# EAGLE library part 691221320008 (library Eagle_WR-TBL Rising Cage Clamp (rev20a))
WR-TBL Serie 2213 - 3.81 mm 55° Entry Modular KIND PROPERTIES Pitch 3.81 mm MATERIAL PROPERTIES Insulator Material PA66 Insulator Flammability Rating UL94 V-0 Insulator Color Green Contact Material Brass Contact Plating Tin Terminal Screw Material Steel Terminal Screw Plating Zinc Wire Guard Material Brass GENERAL INFORMATION Operating Temperature -40 up to +105 °C Compliance Lead free / RoHS ELECTRICAL PROPERTIES IR cULus 10 A Working Voltage [cULus] 300 V (AC) Withstanding Voltage [cULus] 1600 V (AC) Contact Resistance [cULus] 20 mΩ MECHANICAL PROPERTIES Wire Strip Length 5 up to 6 (mm) Screw M2 CERTIFICATION cULus Approval E315414 PACKAGING PROPERTIES Packaging Box <https://www.we-online.com/catalog/media/o33240v209%20Family_WR-TBL_69122132000x.jpg> Details see: https://www.we-online.com/catalog/en/TBL_3_81_2213_55-DEGREE_ENTRY_MODULAR_69122132000X/ Updated by Ella Wu 2019-11-21 2019(C) Wurth Elektronik
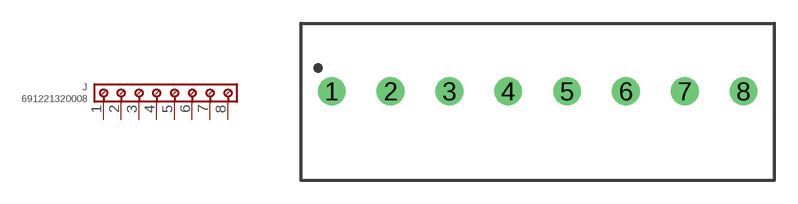
[diagram p112: symbol with the pads of 691221320008; footprint 691221320008]

Designator prefix J

## 691221320008 (DATASHEET-URL: https://www.we-online.com/catalog/datasheet/691221320008.pdf; IR-UL: 10A; MOUNT: THT; PART-NUMBER: 691221320008; PINS: 8; PITCH: 3.81mm; TYPE: 55°; WIRE: 28 to 16 (AWG) 0.081 to 1.31 (mm²); WORKING-VOLTAGE-UL: 300V (AC))  [691221320008]
1  1  pas
2  2  pas
3  3  pas
4  4  pas
5  5  pas
6  6  pas
7  7  pas
8  8  pas

## Footprint 691221320008 (pad centres in mm)
WR-TBL Serie 2213 - 3.81 mm 55° Entry Modular Max Height =9.5mm , Pitch 3.81mm , 8 Pins
drill 1.2: 1 -13.335,0; 2 -9.525,0; 3 -5.715,0; 4 -1.905,0; 5 1.905,0; 6 5.715,0; 7 9.525,0; 8 13.335,0